# Altium footprint library SO-369.PcbLib: 1 footprints
Each footprint in its own frame and in the unit in brackets; x right, y up, seen from the top. Pads: shape width x height; smd on the part's side, far side on the other; paste and mask are expansions set on the pad; w line width, h text height; cw(c..) or ccw(c..) is an arc to the next point about the centre after c.
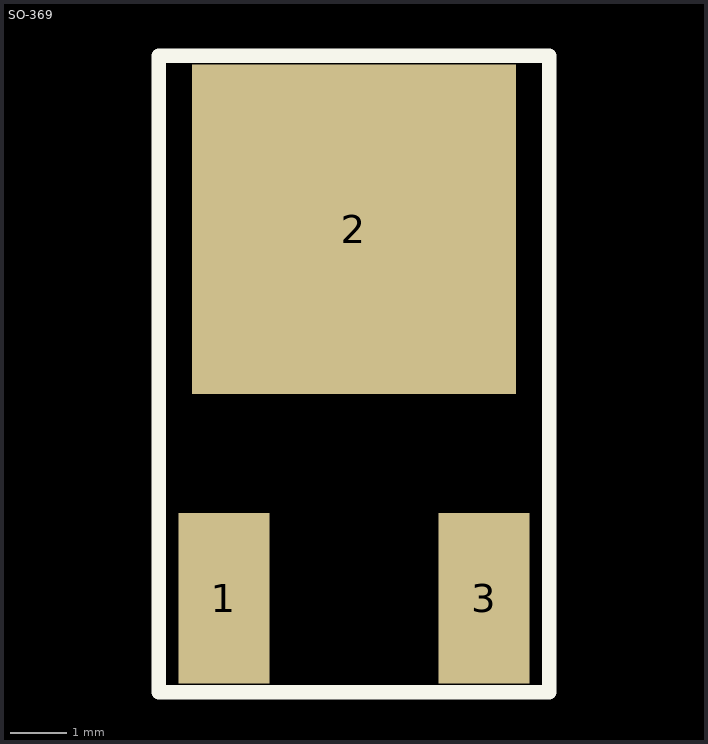
[diagram p0: the footprint, top view; thin cyan lines are the x and y axes]

## SO-369 [mil]
pads (3):
  rect 63x118 smd: 1(-25185,-34760) 3(-25005,-34760)
  rect 224x228 smd: 2(-25095,-34505)
Top Overlay:
  lines w10: -25230,-34825 -25230,-34385 -24960,-34385 -24960,-34825 -25220,-34825 -25230,-34825
3D body: height 94.49, standoff 0, extent -25224.84,-34788.82 -24965,-34391.18